# Altium integrated library Diodes.IntLib: 9 symbols
Pins are listed as number, name and electrical type; pins without a type are passive.

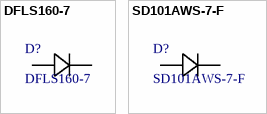
[diagram p0: symbols DFLS160-7 to SD101AWS-7-F]

## DFLS160-7
designator D?
DIODE SCHOTTKY 60V 1A POWERDI123; Manufacturer 1: Diodes Inc; Manufacturer Part Number 1: DFLS160-7
footprint SODFL370X100-2L (SODFL, 2-Leads, Body 1.78x3.70mm, IPC High Density)
pins: 1, 2

## SD101AWS-7-F
designator D?
DIODE SCHOTTKY 60V 15MA SOD323; Manufacturer 1: Diodes Inc; Manufacturer Part Number 1: SD101AWS-7-F
footprint SOD323
pins: 1, 2


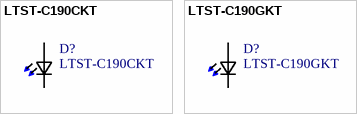
[diagram p1: symbols LTST-C190CKT to LTST-C190GKT]

## LTST-C190CKT
designator D?
Red LED Indication - Discrete 1.8V 10mA 0603 /; Manufacturer: Lite-On Inc.; Availability: Unavailable; Package: 0603 Lite-On; Manufacturer Part Number 1: LTST-C190CKT
footprint 0603
pins: 1 K2, 2 A2

## LTST-C190GKT
designator D?
Green 569nm LED Indication - Discrete 2.1V 10mA 0603 /; Manufacturer: Lite-On Inc.; Availability: Unavailable; Package: 0603 Lite-On; Manufacturer Part Number 1: LTST-C190GKT
footprint 0603
pins: 1 K2, 2 A2


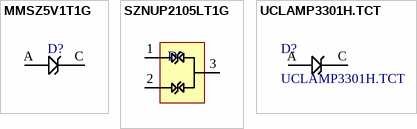
[diagram p2: symbols MMSZ5V1T1G to UCLAMP3301H.TCT]

## MMSZ5V1T1G
designator D?
DIODE Zener 5.1V 500mw; Manufacturer: ON Semiconductor; Manufacturer Part Number: MMSZ5V1T1G; Material: Plastic; Tolerance: 5%; Impedance: 60R; Max Reverse Leakage Current: 2uA; Test Current: 5mA; Element Configuration: Single; Forward Voltage: 900mV; Zener Current: 10mA; Breakdown Voltage: 5.36V; Supplier 1: Future Electronics; Stock 1: 0; Case/Package: SOD-123-2; Number of Pins: 2; Min Operating Temperature: -55°C; Max Operating Temperature: 150°C; Package Quantity: 1; Max Power Dissipation: 500mW; Packaging: Tape and Reel; Zener Voltage: 5.1V; Power Dissipation: 500mW; Voltage Tolerance: 5%; Working Voltage: 5.1V; Peak Reverse Current: 2uA; Voltage Rating (DC): 5.1V; Power Rating: 500mW; Length: 2.69mm; Height: 1.12mm; Width: 1.6mm; Radiation Hardening: No; Lead Free: Lead Free; REACH SVHC: No SVHC; ComponentLink1URL: https://datasheet.ciiva.com/895/mmsz2v4t1-d-895025.pdf; ComponentLink1Description: https://datasheet.ciiva.com/895/mmsz2v4t1-d-895025.pdf; ComponentLink2URL: https://datasheet.ciiva.com/895/mmsz2v4t1-d-895026.pdf; ComponentLink2Description: https://datasheet.ciiva.com/895/mmsz2v4t1-d-895026.pdf; ComponentLink3URL: https://datasheet.ciiva.com/895/mmsz2v4t1-d-895027.pdf; ComponentLink3Description: https://datasheet.ciiva.com/895/mmsz2v4t1-d-895027.pdf; ComponentLink4URL: https://datasheet.ciiva.com/15142/getdatasheetpartid-72078-15142387.pdf; ComponentLink4Description: https://datasheet.ciiva.com/15142/getdatasheetpartid-72078-15142387.pdf; ComponentLink5URL: https://datasheet.ciiva.com/8346/mmsz2v4t1-d-8346086.pdf; ComponentLink5Description: https://datasheet.ciiva.com/8346/mmsz2v4t1-d-8346086.pdf; ComponentLink6URL: https://datasheet.ciiva.com/8026/78656-8026888.pdf; ComponentLink6Description: https://datasheet.ciiva.com/8026/78656-8026888.pdf; ComponentLink7URL: https://datasheet.ciiva.com/26092/mmsz2v4t1-d-26092696.pdf; ComponentLink7Description: https://datasheet.ciiva.com/26092/mmsz2v4t1-d-26092696.pdf; ComponentLink8URL: https://datasheet.ciiva.com/16542/mmsz2v4t1-d-16542073.pdf; ComponentLink8Description: https://datasheet.ciiva.com/16542/mmsz2v4t1-d-16542073.pdf; ComponentLink9URL: https://datasheet.ciiva.com/8026/78656-8026890.pdf; ComponentLink9Description: https://datasheet.ciiva.com/8026/78656-8026890.pdf; Supplier Part Number 1: MMSZ5V1T1G
footprint SOIC127P370X94-2N (SOIC, 2-Leads, Body 1.60x2.69mm, Pitch 1.27mm, IPC Medium Density)
pins: A, C

## SZNUP2105LT1G
designator D?
footprint SOT-23-3
pins: 1, 2, 3

## UCLAMP3301H.TCT
designator D?
TVS Diode 3.3V 8V SOD523
footprint SODFL160X70-2L (SODFL, 2-Leads, Body 0.80x1.60mm, IPC High Density)
pins: A, C


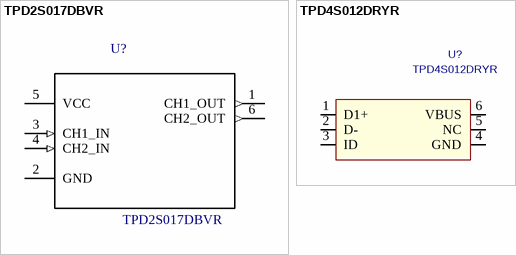
[diagram p3: symbols TPD2S017DBVR to TPD4S012DRYR]

## TPD2S017DBVR
designator U?
2-Channel Ultra Low Clamp Voltage ESD Solution with Series-Resistor Isolation 6-SOT-23 -40 to 85; MF: Texas Instruments; Price: 0.32 USD; MP: TPD2S017DBVR; SnapEDA_Link: https://www.snapeda.com/parts/TPD2S017DBVR/Texas%20Instruments/view-part/?ref=snap; Availability: Good; Package: SOT-23-6 Texas Instruments; Value: *
footprint TPD2S017
pins: 1 CH1_OUT (out), 2 GND, 3 CH1_IN (in), 4 CH2_IN (in), 5 VCC (power), 6 CH2_OUT (out)

## TPD4S012DRYR
designator U?
C: Copyright (C) 2015 Accelerated Designs. All rights reserved; Vendor: Texas Instruments; Built_By: EMA_UL_Team; Value: TPD4S012DRYR; Manufacturer_Part_Number: TPD4S012DRYR
footprint DRY6
pins: 1 D1+, 2 D-, 3 ID, 4 GND (power), 5 NC, 6 VBUS (power)